# Altium footprint library TSOP.PcbLib: 1 footprints
Each footprint in its own frame and in the unit in brackets; x right, y up, seen from the top. Pads: shape width x height; smd on the part's side, far side on the other; paste and mask are expansions set on the pad; w line width, h text height; cw(c..) or ccw(c..) is an arc to the next point about the centre after c.
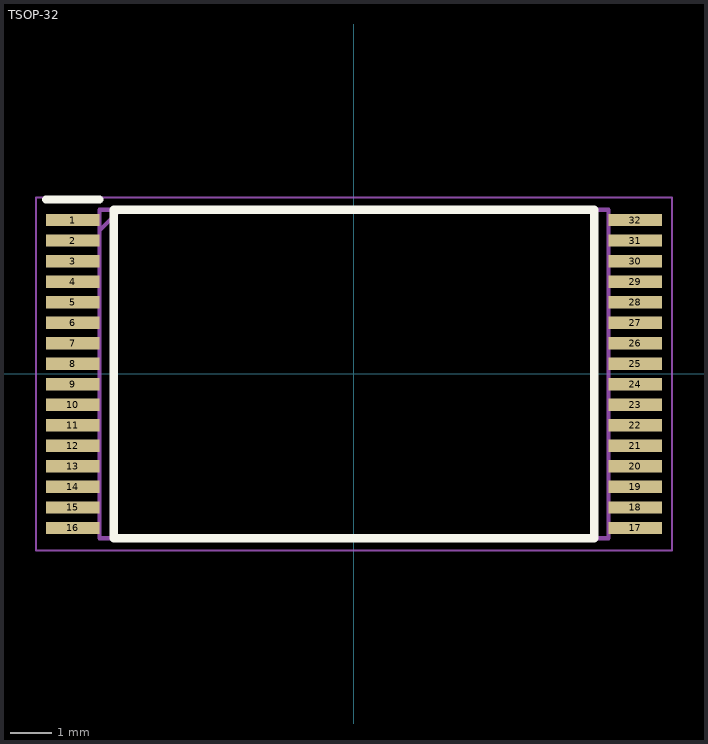
[diagram p0: the footprint, top view; thin cyan lines are the x and y axes]

## TSOP-32 [mm]
pads (32):
  rect 1.3x0.3 smd: 1(-6.85,3.75) 2(-6.85,3.25) 3(-6.85,2.75) 4(-6.85,2.25) 5(-6.85,1.75) 6(-6.85,1.25) 7(-6.85,0.75) 8(-6.85,0.25) 9(-6.85,-0.25) 10(-6.85,-0.75) 11(-6.85,-1.25) 12(-6.85,-1.75) 13(-6.85,-2.25) 14(-6.85,-2.75) 15(-6.85,-3.25) 16(-6.85,-3.75) 17(6.85,-3.75) 18(6.85,-3.25) 19(6.85,-2.75) 20(6.85,-2.25) 21(6.85,-1.75) 22(6.85,-1.25) 23(6.85,-0.75) 24(6.85,-0.25) 25(6.85,0.25) 26(6.85,0.75) 27(6.85,1.25) 28(6.85,1.75) 29(6.85,2.25) 30(6.85,2.75) 31(6.85,3.25) 32(6.85,3.75)
Top Overlay:
  lines w0.2: -7.5,4.25 -6.2,4.25 ; -5.85,-4 5.85,-4 5.85,4 -5.85,4 -5.85,-4
Top Assembly:
  lines w0.1: -6.2,3.5 -5.7,4 ; -6.2,-4 -6.2,4 6.2,4 6.2,-4 -6.2,-4
Top Component Outline:
  lines w0.05: -7.75,-4.3 7.75,-4.3 7.75,4.3 -7.75,4.3 -7.75,-4.3
3D body "SST39VF010-70-4C-WHE.stp": height 1.2, standoff 0, extent -7,-4 7,4